# EAGLE library part VHDCI-PLUG (library VHDCI)
VHDCI Plug - 68 pins
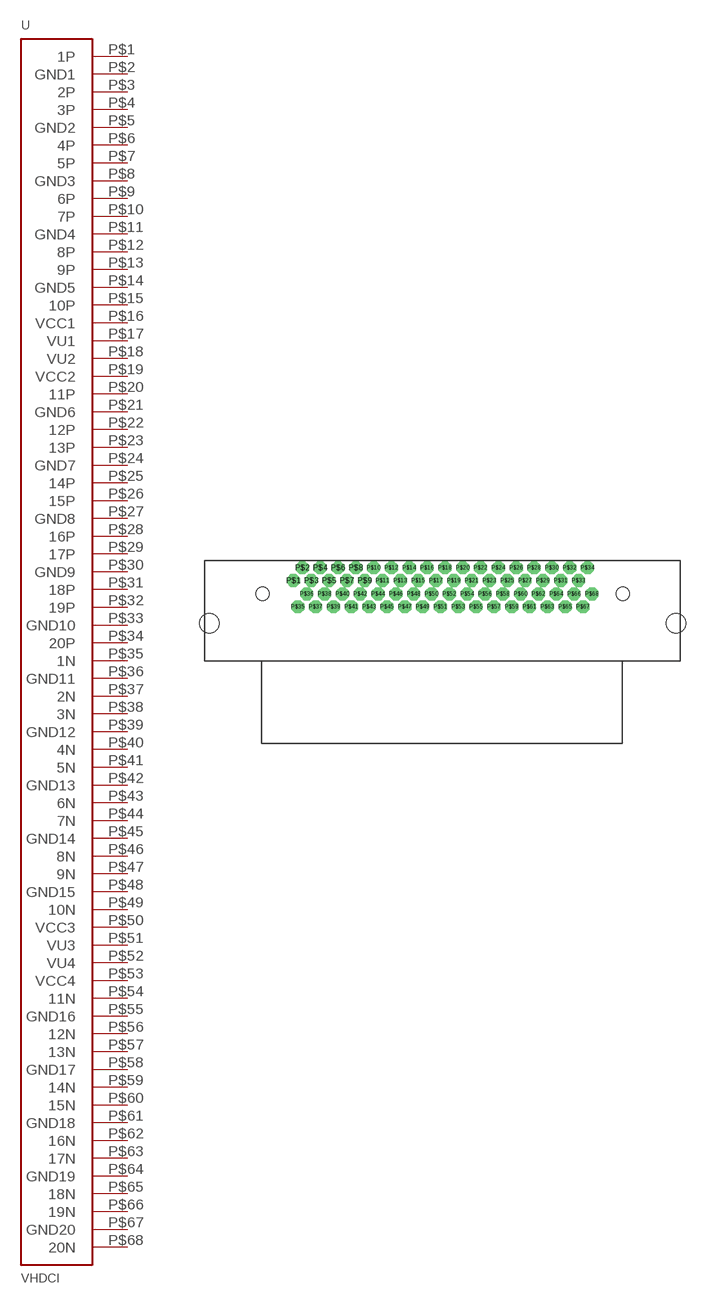
[diagram p0: symbol with the pads of R-HI-008068-2; footprint R-HI-008068-2]

Designator prefix -

## VHDCI-PLUG  [R-HI-008068-2]
P$1  1P
P$2  GND1
P$3  2P
P$4  3P
P$5  GND2
P$6  4P
P$7  5P
P$8  GND3
P$9  6P
P$10  7P
P$11  GND4
P$12  8P
P$13  9P
P$14  GND5
P$15  10P
P$16  VCC1
P$17  VU1
P$18  VU2
P$19  VCC2
P$20  11P
P$21  GND6
P$22  12P
P$23  13P
P$24  GND7
P$25  14P
P$26  15P
P$27  GND8
P$28  16P
P$29  17P
P$30  GND9
P$31  18P
P$32  19P
P$33  GND10
P$34  20P
P$35  1N
P$36  GND11
P$37  2N
P$38  3N
P$39  GND12
P$40  4N
P$41  5N
P$42  GND13
P$43  6N
P$44  7N
P$45  GND14
P$46  8N
P$47  9N
P$48  GND15
P$49  10N
P$50  VCC3
P$51  VU3
P$52  VU4
P$53  VCC4
P$54  11N
P$55  GND16
P$56  12N
P$57  13N
P$58  GND17
P$59  14N
P$60  15N
P$61  GND18
P$62  16N
P$63  17N
P$64  GND19
P$65  18N
P$66  19N
P$67  GND20
P$68  20N

## Footprint R-HI-008068-2 (pad centres in mm)
VHDCI 0.8mm R/A Plug (http://www.digilentinc.com/Data/Documents/Product%20Documentation/R-HI-008068-2_plug.pdf)
drill 0.65 pad 1 octagon: P$1 7.975,7.2; P$2 8.775,8.35; P$3 9.575,7.2; P$4 10.375,8.35; P$5 11.175,7.2; P$6 11.975,8.35; P$7 12.775,7.2; P$8 13.575,8.35; P$9 14.375,7.2; P$10 15.175,8.35; P$11 15.975,7.2; P$12 16.775,8.35; P$13 17.575,7.2; P$14 18.375,8.35; P$15 19.175,7.2; P$16 19.975,8.35; P$17 20.775,7.2; P$18 21.575,8.35; P$19 22.375,7.2; P$20 23.175,8.35; P$21 23.975,7.2; P$22 24.775,8.35; P$23 25.575,7.2; P$24 26.375,8.35; P$25 27.175,7.2; P$26 27.975,8.35; P$27 28.775,7.2; P$28 29.575,8.35; P$29 30.375,7.2; P$30 31.175,8.35; P$31 31.975,7.2; P$32 32.775,8.35; P$33 33.575,7.2; P$34 34.375,8.35; P$35 8.375,4.85; P$36 9.175,6; P$37 9.975,4.85; P$38 10.775,6; P$39 11.575,4.85; P$40 12.375,6; P$41 13.175,4.85; P$42 13.975,6; P$43 14.775,4.85; P$44 15.575,6; P$45 16.375,4.85; P$46 17.175,6; P$47 17.975,4.85; P$48 18.775,6; P$49 19.575,4.85; P$50 20.375,6; P$51 21.175,4.85; P$52 21.975,6; P$53 22.775,4.85; P$54 23.575,6; P$55 24.375,4.85; P$56 25.175,6; P$57 25.975,4.85; P$58 26.775,6; P$59 27.575,4.85; P$60 28.375,6; P$61 29.175,4.85; P$62 29.975,6; P$63 30.775,4.85; P$64 31.575,6; P$65 32.375,4.85; P$66 33.175,6; P$67 33.975,4.85; P$68 34.775,6
hole 1.2 at 5.2,6
hole 1.2 at 37.55,6
hole 1.75 at 0.425,3.375
hole 1.75 at 42.325,3.375